# EAGLE library part 53398_12 (library Molex)
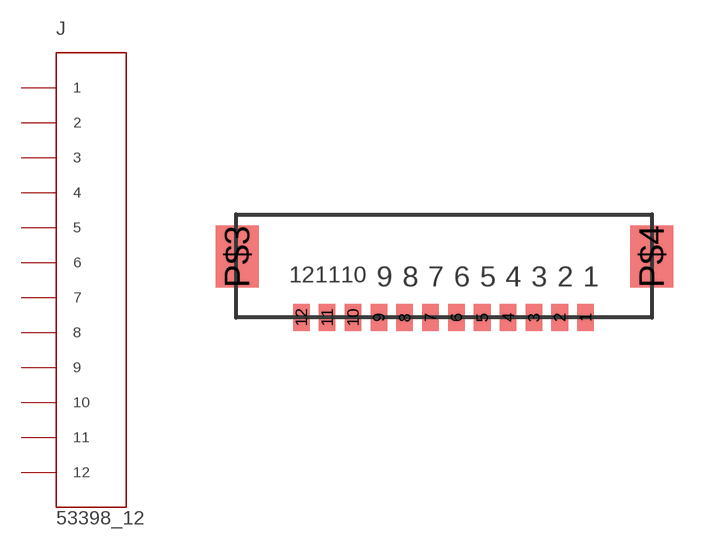
[diagram p2: symbol with the pads of 53398_12; footprint 53398_12]

Designator prefix J

## 53398_12  [53398_12]
1  1
2  2
3  3
4  4
5  5
6  6
7  7
8  8
9  9
10  10
11  11
12  12

## Footprint 53398_12 (pad centres in mm)
smd 0.8 x 1.3: 1 13.1,0; 2 11.85,0; 3 10.6,0; 4 9.35,0; 5 8.1,0; 6 6.85,0; 7 5.6,0; 8 4.35,0; 9 3.1,0; 10 1.85,0; 11 0.6,0; 12 -0.65,0
smd 2.1 x 3: P$3 -3.75,2.95; P$4 16.3,2.95